# Altium integrated library Microchip Microcontroller 8-Bit PIC16.IntLib: 1529 symbols (part 36 of 55)
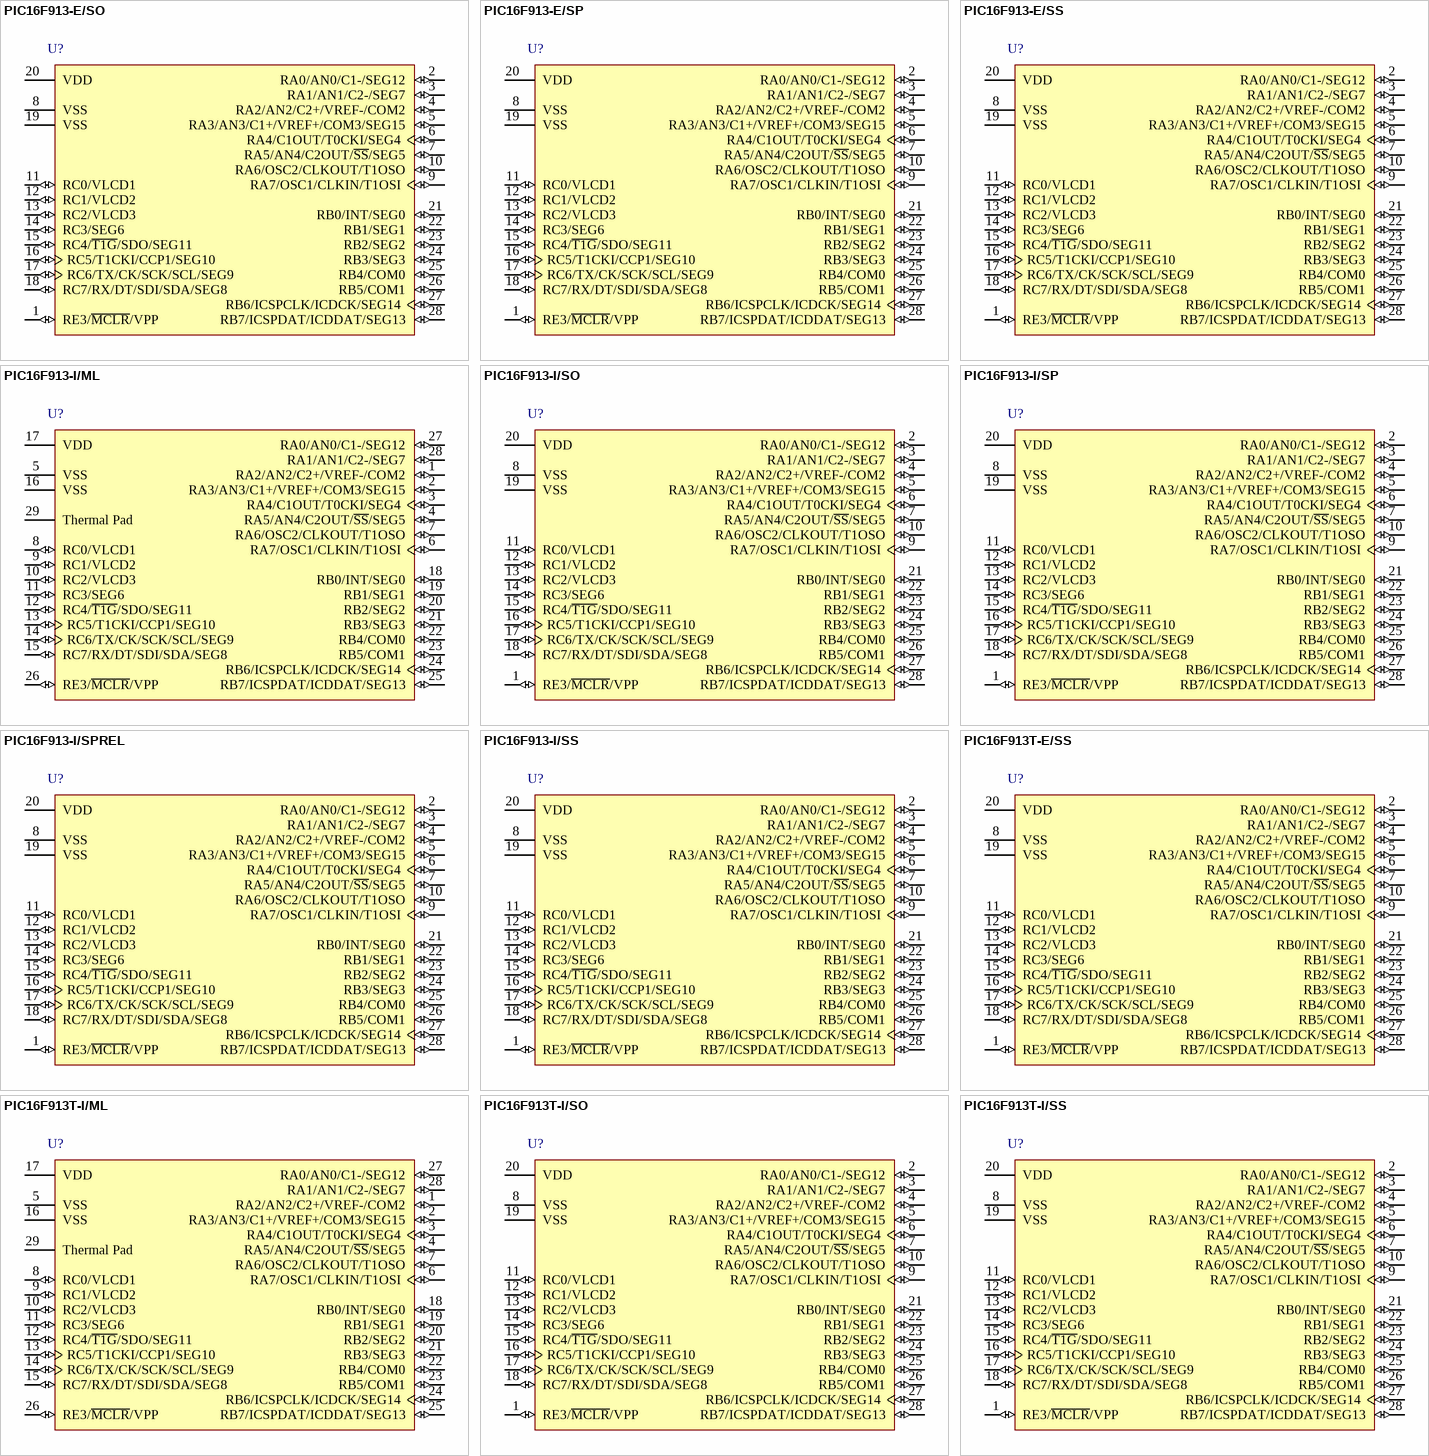
[diagram p153: symbols PIC16F913-E/SO to PIC16F913T-I/SS]

## PIC16F913T-E/SS
designator U?
Flash-Based, 8-Bit CMOS Microcontroller with LCD Driver and nanoWatt Technology, 4K (x14-Bit words) Program Memory, 512 Bytes Data Memory, 24 I/O pins, 28-Pin SSOP, Standard VDD Range, Extended Temperature, Tape and Reel; Published: 29-Jan-2009; DatasheetVersion: revF, May-2007; PackageVersion: revBB, Aug-2009; PackageReference: SSOP-SS28; Publisher: Altium Limited; PackageDescription: 28-Lead Plastic Shrink Small Outline (SS) - 5.3mm Body [SSOP]; Code_JEDEC: MS-150; Code_IPC: SOP65P780-28; ComponentLink1Description: Datasheet; ComponentLink1URL: http://ww1.microchip.com/downloads/en/DeviceDoc/41250F.pdf; ComponentLink2Description: Packaging Specification; ComponentLink2URL: http://www.microchip.com/stellent/groups/techpub_sg/documents/packagingspec/en012702.pdf; ComponentLink3Description: Microchip.com Home; ComponentLink3URL: http://www.microchip.com/
footprint SSOP-SS28_N (SOP, 28-Leads, Body 10.2x5.2mm, Pitch 0.65mm, IPC Medium Density)
footprint SSOP-SS28_L (SOP, 28-Leads, Body 10.2x5.2mm, Pitch 0.65mm, IPC High Density)
footprint SSOP-SS28_M (SOP, 28-Leads, Body 10.2x5.2mm, Pitch 0.65mm, IPC Low Density)
pins: 1 RE3/~{MCLR}/VPP (io), 2 RA0/AN0/C1-/SEG12 (io), 3 RA1/AN1/C2-/SEG7 (io), 4 RA2/AN2/C2+/VREF-/COM2 (io), 5 RA3/AN3/C1+/VREF+/COM3/SEG15 (io), 6 RA4/C1OUT/T0CKI/SEG4 (io), 7 RA5/AN4/C2OUT/~{SS}/SEG5 (io), 8 VSS (power), 9 RA7/OSC1/CLKIN/T1OSI (io), 10 RA6/OSC2/CLKOUT/T1OSO (io), 11 RC0/VLCD1 (io), 12 RC1/VLCD2 (io), 13 RC2/VLCD3 (io), 14 RC3/SEG6 (io), 15 RC4/~{T1G}/SDO/SEG11 (io), 16 RC5/T1CKI/CCP1/SEG10 (io), 17 RC6/TX/CK/SCK/SCL/SEG9 (io), 18 RC7/RX/DT/SDI/SDA/SEG8 (io), 19 VSS (power), 20 VDD (power), 21 RB0/INT/SEG0 (io), 22 RB1/SEG1 (io), 23 RB2/SEG2 (io), 24 RB3/SEG3 (io), 25 RB4/COM0 (io), 26 RB5/COM1 (io), 27 RB6/ICSPCLK/ICDCK/SEG14 (io), 28 RB7/ICSPDAT/ICDDAT/SEG13 (io)

## PIC16F913T-I/ML
designator U?
Flash-Based, 8-Bit CMOS Microcontroller with LCD Driver and nanoWatt Technology, 4K (x14-Bit words) Program Memory, 512 Bytes Data Memory, 24 I/O pins, 28-Pin QFN, Standard VDD Range, Industrial Temperature, Tape and Reel; Published: 29-Jan-2009; DatasheetVersion: revF, May-2007; PackageVersion: revBB, Aug-2009; PackageReference: QFN-ML28; Publisher: Altium Limited; PackageDescription: 28-Lead Plastic Quad Flat, No Lead Package (ML) - 6x6 mm Body [QFN] with 0.55 mm Contact Length; Supplier 1: Digi-Key; Supplier Part Number 1: PIC16F913T-I/ML-ND; Code_JEDEC: MO-220; Code_IPC: QFN65P600X600-28V; ComponentLink1Description: Datasheet; ComponentLink1URL: http://ww1.microchip.com/downloads/en/DeviceDoc/41250F.pdf; ComponentLink2Description: Packaging Specification; ComponentLink2URL: http://www.microchip.com/stellent/groups/techpub_sg/documents/packagingspec/en012702.pdf; ComponentLink3Description: Microchip.com Home; ComponentLink3URL: http://www.microchip.com/
footprint QFN-ML28_N (QFN, 28-Leads, Body 6x6 mm, Pitch 0.65mm, IPC Medium Density)
footprint QFN-ML28_L (QFN, 28-Leads, Body 6x6 mm, Pitch 0.65mm, IPC High Density)
footprint QFN-ML28_M (QFN, 28-Leads, Body 6x6 mm, Pitch 0.65mm, IPC Low Density)
pins: 1 RA2/AN2/C2+/VREF-/COM2 (io), 2 RA3/AN3/C1+/VREF+/COM3/SEG15 (io), 3 RA4/C1OUT/T0CKI/SEG4 (io), 4 RA5/AN4/C2OUT/~{SS}/SEG5 (io), 5 VSS (power), 6 RA7/OSC1/CLKIN/T1OSI (io), 7 RA6/OSC2/CLKOUT/T1OSO (io), 8 RC0/VLCD1 (io), 9 RC1/VLCD2 (io), 10 RC2/VLCD3 (io), 11 RC3/SEG6 (io), 12 RC4/~{T1G}/SDO/SEG11 (io), 13 RC5/T1CKI/CCP1/SEG10 (io), 14 RC6/TX/CK/SCK/SCL/SEG9 (io), 15 RC7/RX/DT/SDI/SDA/SEG8 (io), 16 VSS (power), 17 VDD (power), 18 RB0/INT/SEG0 (io), 19 RB1/SEG1 (io), 20 RB2/SEG2 (io), 21 RB3/SEG3 (io), 22 RB4/COM0 (io), 23 RB5/COM1 (io), 24 RB6/ICSPCLK/ICDCK/SEG14 (io), 25 RB7/ICSPDAT/ICDDAT/SEG13 (io), 26 RE3/~{MCLR}/VPP (io), 27 RA0/AN0/C1-/SEG12 (io), 28 RA1/AN1/C2-/SEG7 (io), 29 Thermal Pad

## PIC16F913T-I/SO
designator U?
Flash-Based, 8-Bit CMOS Microcontroller with LCD Driver and nanoWatt Technology, 4K (x14-Bit words) Program Memory, 512 Bytes Data Memory, 24 I/O pins, 28-Pin SOIC, Standard VDD Range, Industrial Temperature, Tape and Reel; Published: 29-Jan-2009; DatasheetVersion: revF, May-2007; PackageVersion: revBB, Aug-2009; PackageReference: SOIC-SO28; Publisher: Altium Limited; PackageDescription: 28-Lead Plastic Small Outline (SO) - Wide 7.50mm Body [SOIC]; Supplier 1: Digi-Key; Supplier Part Number 1: PIC16F913T-I/SO-ND; Code_JEDEC: MS-013; ComponentLink1Description: Datasheet; ComponentLink1URL: http://ww1.microchip.com/downloads/en/DeviceDoc/41250F.pdf; ComponentLink2Description: Packaging Specification; ComponentLink2URL: http://www.microchip.com/stellent/groups/techpub_sg/documents/packagingspec/en012702.pdf; ComponentLink3Description: Microchip.com Home; ComponentLink3URL: http://www.microchip.com/
footprint SOIC-SO28_N (SOIC, 28-Leads, Body 17.9x7.5mm, Pitch 1.27mm, IPC Medium Density)
footprint SOIC-SO28_L (SOIC, 28-Leads, Body 17.9x7.5mm, Pitch 1.27mm, IPC High Density)
footprint SOIC-SO28_M (SOIC, 28-Leads, Body 17.9x7.5mm, Pitch 1.27mm, IPC Low Density)
pins: 1 RE3/~{MCLR}/VPP (io), 2 RA0/AN0/C1-/SEG12 (io), 3 RA1/AN1/C2-/SEG7 (io), 4 RA2/AN2/C2+/VREF-/COM2 (io), 5 RA3/AN3/C1+/VREF+/COM3/SEG15 (io), 6 RA4/C1OUT/T0CKI/SEG4 (io), 7 RA5/AN4/C2OUT/~{SS}/SEG5 (io), 8 VSS (power), 9 RA7/OSC1/CLKIN/T1OSI (io), 10 RA6/OSC2/CLKOUT/T1OSO (io), 11 RC0/VLCD1 (io), 12 RC1/VLCD2 (io), 13 RC2/VLCD3 (io), 14 RC3/SEG6 (io), 15 RC4/~{T1G}/SDO/SEG11 (io), 16 RC5/T1CKI/CCP1/SEG10 (io), 17 RC6/TX/CK/SCK/SCL/SEG9 (io), 18 RC7/RX/DT/SDI/SDA/SEG8 (io), 19 VSS (power), 20 VDD (power), 21 RB0/INT/SEG0 (io), 22 RB1/SEG1 (io), 23 RB2/SEG2 (io), 24 RB3/SEG3 (io), 25 RB4/COM0 (io), 26 RB5/COM1 (io), 27 RB6/ICSPCLK/ICDCK/SEG14 (io), 28 RB7/ICSPDAT/ICDDAT/SEG13 (io)

## PIC16F913T-I/SS
designator U?
Flash-Based, 8-Bit CMOS Microcontroller with LCD Driver and nanoWatt Technology, 4K (x14-Bit words) Program Memory, 512 Bytes Data Memory, 24 I/O pins, 28-Pin SSOP, Standard VDD Range, Industrial Temperature, Tape and Reel; Published: 29-Jan-2009; DatasheetVersion: revF, May-2007; PackageVersion: revBB, Aug-2009; PackageReference: SSOP-SS28; Publisher: Altium Limited; PackageDescription: 28-Lead Plastic Shrink Small Outline (SS) - 5.3mm Body [SSOP]; Supplier 1: Digi-Key; Supplier Part Number 1: PIC16F913T-I/SS-ND; Code_JEDEC: MS-150; Code_IPC: SOP65P780-28; ComponentLink1Description: Datasheet; ComponentLink1URL: http://ww1.microchip.com/downloads/en/DeviceDoc/41250F.pdf; ComponentLink2Description: Packaging Specification; ComponentLink2URL: http://www.microchip.com/stellent/groups/techpub_sg/documents/packagingspec/en012702.pdf; ComponentLink3Description: Microchip.com Home; ComponentLink3URL: http://www.microchip.com/
footprint SSOP-SS28_N (SOP, 28-Leads, Body 10.2x5.2mm, Pitch 0.65mm, IPC Medium Density)
footprint SSOP-SS28_L (SOP, 28-Leads, Body 10.2x5.2mm, Pitch 0.65mm, IPC High Density)
footprint SSOP-SS28_M (SOP, 28-Leads, Body 10.2x5.2mm, Pitch 0.65mm, IPC Low Density)
pins: 1 RE3/~{MCLR}/VPP (io), 2 RA0/AN0/C1-/SEG12 (io), 3 RA1/AN1/C2-/SEG7 (io), 4 RA2/AN2/C2+/VREF-/COM2 (io), 5 RA3/AN3/C1+/VREF+/COM3/SEG15 (io), 6 RA4/C1OUT/T0CKI/SEG4 (io), 7 RA5/AN4/C2OUT/~{SS}/SEG5 (io), 8 VSS (power), 9 RA7/OSC1/CLKIN/T1OSI (io), 10 RA6/OSC2/CLKOUT/T1OSO (io), 11 RC0/VLCD1 (io), 12 RC1/VLCD2 (io), 13 RC2/VLCD3 (io), 14 RC3/SEG6 (io), 15 RC4/~{T1G}/SDO/SEG11 (io), 16 RC5/T1CKI/CCP1/SEG10 (io), 17 RC6/TX/CK/SCK/SCL/SEG9 (io), 18 RC7/RX/DT/SDI/SDA/SEG8 (io), 19 VSS (power), 20 VDD (power), 21 RB0/INT/SEG0 (io), 22 RB1/SEG1 (io), 23 RB2/SEG2 (io), 24 RB3/SEG3 (io), 25 RB4/COM0 (io), 26 RB5/COM1 (io), 27 RB6/ICSPCLK/ICDCK/SEG14 (io), 28 RB7/ICSPDAT/ICDDAT/SEG13 (io)

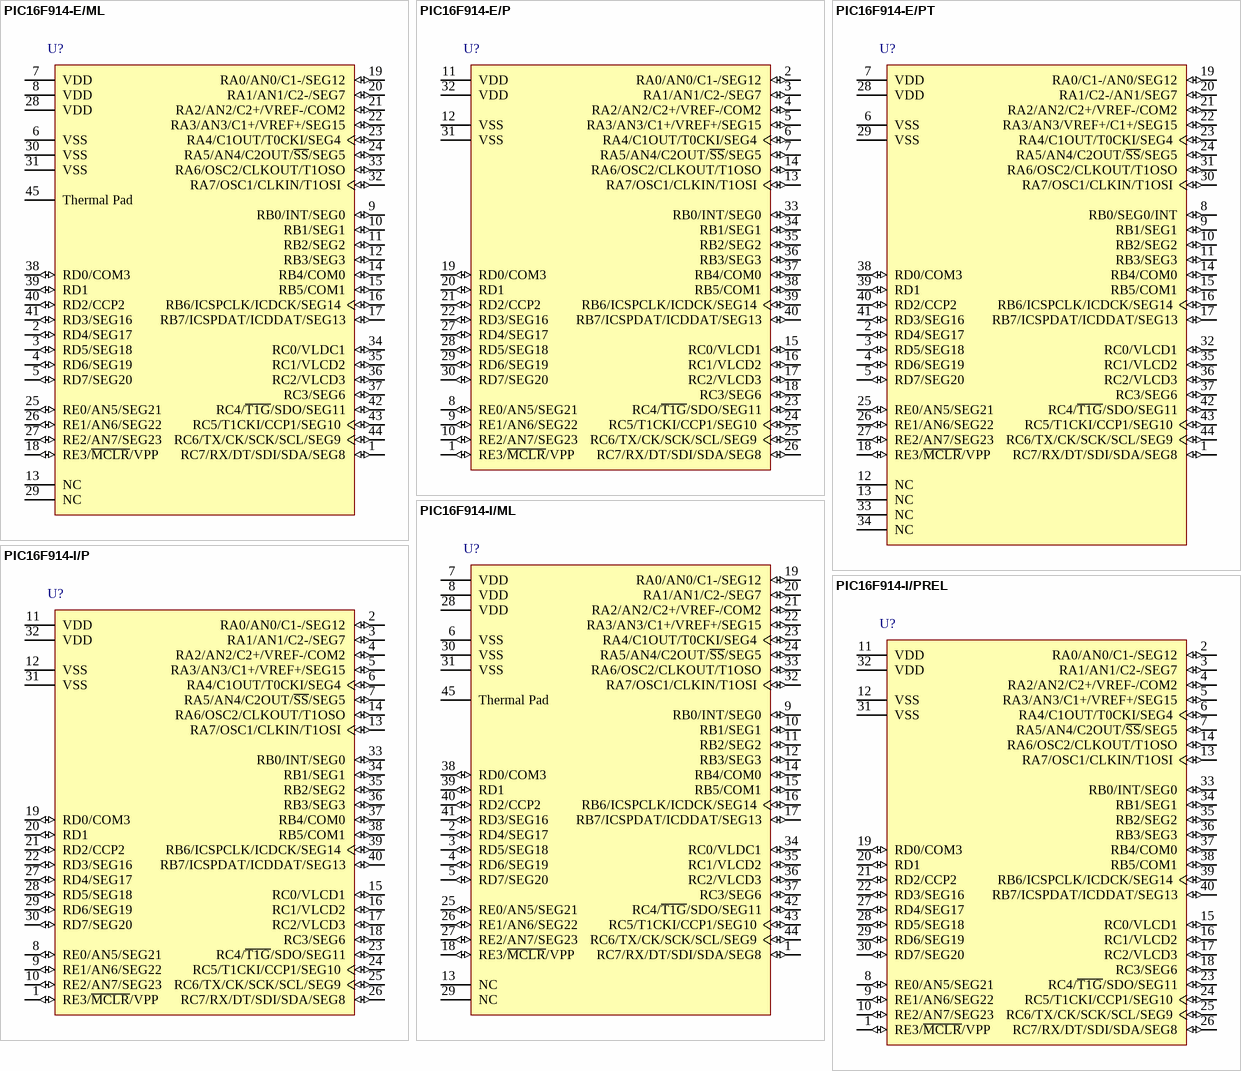
[diagram p72: symbols PIC16F914-E/ML to PIC16F914-I/PREL]

## PIC16F914-E/ML
designator U?
Flash-Based, 8-Bit CMOS Microcontroller with LCD Driver and nanoWatt Technology, 4K (x14-Bit words) Program Memory, 512 Bytes Data Memory, 35 I/O pins, 44-Pin QFN, Standard VDD Range, Extended Temperature; Published: 29-Jan-2009; DatasheetVersion: revF, May-2007; PackageVersion: revBB, Aug-2009; PackageReference: QFN-ML44; Publisher: Altium Limited; PackageDescription: 44-Lead Plastic Quad Flat, No Lead Package (ML) - 8x8 mm Body [QFN]; Supplier 1: Digi-Key; Supplier Part Number 1: PIC16F914-E/ML-ND; Code_JEDEC: MO-220; Code_IPC: QFN65P800X800-44V2; ComponentLink1Description: Datasheet; ComponentLink1URL: http://ww1.microchip.com/downloads/en/DeviceDoc/41250F.pdf; ComponentLink2Description: Packaging Specification; ComponentLink2URL: http://www.microchip.com/stellent/groups/techpub_sg/documents/packagingspec/en012702.pdf; ComponentLink3Description: Microchip.com Home; ComponentLink3URL: http://www.microchip.com/
footprint QFN-ML44_N (QFN, 44-Leads, Body 8x8 mm, Pitch 0.65mm, IPC Medium Density)
footprint QFN-ML44_L (QFN, 44-Leads, Body 8x8 mm, Pitch 0.65mm, IPC High Density)
footprint QFN-ML44_M (QFN, 44-Leads, Body 8x8 mm, Pitch 0.65mm, IPC Low Density)
pins: 1 RC7/RX/DT/SDI/SDA/SEG8 (io), 2 RD4/SEG17 (io), 3 RD5/SEG18 (io), 4 RD6/SEG19 (io), 5 RD7/SEG20 (io), 6 VSS (power), 7 VDD (power), 8 VDD (power), 9 RB0/INT/SEG0 (io), 10 RB1/SEG1 (io), 11 RB2/SEG2 (io), 12 RB3/SEG3 (io), 13 NC, 14 RB4/COM0 (io), 15 RB5/COM1 (io), 16 RB6/ICSPCLK/ICDCK/SEG14 (io), 17 RB7/ICSPDAT/ICDDAT/SEG13 (io), 18 RE3/~{MCLR}/VPP (io), 19 RA0/AN0/C1-/SEG12 (io), 20 RA1/AN1/C2-/SEG7 (io), 21 RA2/AN2/C2+/VREF-/COM2 (io), 22 RA3/AN3/C1+/VREF+/SEG15 (io), 23 RA4/C1OUT/T0CKI/SEG4 (io), 24 RA5/AN4/C2OUT/~{SS}/SEG5 (io), 25 RE0/AN5/SEG21 (io), 26 RE1/AN6/SEG22 (io), 27 RE2/AN7/SEG23 (io), 28 VDD (power), 29 NC, 30 VSS (power), 31 VSS (power), 32 RA7/OSC1/CLKIN/T1OSI (io), 33 RA6/OSC2/CLKOUT/T1OSO (io), 34 RC0/VLDC1 (io), 35 RC1/VLCD2 (io), 36 RC2/VLCD3 (io), 37 RC3/SEG6 (io), 38 RD0/COM3 (io), 39 RD1 (io), 40 RD2/CCP2 (io), 41 RD3/SEG16 (io), 42 RC4/~{T1G}/SDO/SEG11 (io), 43 RC5/T1CKI/CCP1/SEG10 (io), 44 RC6/TX/CK/SCK/SCL/SEG9 (io), 45 Thermal Pad

## PIC16F914-E/P
designator U?
Flash-Based, 8-Bit CMOS Microcontroller with LCD Driver and nanoWatt Technology, 4K (x14-Bit words) Program Memory, 512 Bytes Data Memory, 35 I/O pins, 40-Pin PDIP, Standard VDD Range, Extended Temperature; Published: 29-Jan-2009; DatasheetVersion: revF, May-2007; PackageVersion: revBB, Aug-2009; PackageReference: PDIP600-P40; Publisher: Altium Limited; PackageDescription: 40-Lead Plastic Dual In-Line (P) - 600 mil Body [PDIP]; Supplier 1: Digi-Key; Supplier Part Number 1: PIC16F914-E/P-ND; ComponentLink1Description: Datasheet; ComponentLink1URL: http://ww1.microchip.com/downloads/en/DeviceDoc/41250F.pdf; ComponentLink2Description: Packaging Specification; ComponentLink2URL: http://www.microchip.com/stellent/groups/techpub_sg/documents/packagingspec/en012702.pdf; ComponentLink3Description: Microchip.com Home; ComponentLink3URL: http://www.microchip.com/
footprint PDIP600-P40 (DIP, 40-Leads, Row Spacing 15.24mm, Pitch 2.54mm, Body 51.8x13.5mm)
pins: 1 RE3/~{MCLR}/VPP (io), 2 RA0/AN0/C1-/SEG12 (io), 3 RA1/AN1/C2-/SEG7 (io), 4 RA2/AN2/C2+/VREF-/COM2 (io), 5 RA3/AN3/C1+/VREF+/SEG15 (io), 6 RA4/C1OUT/T0CKI/SEG4 (io), 7 RA5/AN4/C2OUT/~{SS}/SEG5 (io), 8 RE0/AN5/SEG21 (io), 9 RE1/AN6/SEG22 (io), 10 RE2/AN7/SEG23 (io), 11 VDD (power), 12 VSS (power), 13 RA7/OSC1/CLKIN/T1OSI (io), 14 RA6/OSC2/CLKOUT/T1OSO (io), 15 RC0/VLCD1 (io), 16 RC1/VLCD2 (io), 17 RC2/VLCD3 (io), 18 RC3/SEG6 (io), 19 RD0/COM3 (io), 20 RD1 (io), 21 RD2/CCP2 (io), 22 RD3/SEG16 (io), 23 RC4/~{T1G}/SDO/SEG11 (io), 24 RC5/T1CKI/CCP1/SEG10 (io), 25 RC6/TX/CK/SCK/SCL/SEG9 (io), 26 RC7/RX/DT/SDI/SDA/SEG8 (io), 27 RD4/SEG17 (io), 28 RD5/SEG18 (io), 29 RD6/SEG19 (io), 30 RD7/SEG20 (io), 31 VSS (power), 32 VDD (power), 33 RB0/INT/SEG0 (io), 34 RB1/SEG1 (io), 35 RB2/SEG2 (io), 36 RB3/SEG3 (io), 37 RB4/COM0 (io), 38 RB5/COM1 (io), 39 RB6/ICSPCLK/ICDCK/SEG14 (io), 40 RB7/ICSPDAT/ICDDAT/SEG13 (io)

## PIC16F914-E/PT
designator U?
Flash-Based, 8-Bit CMOS Microcontroller with LCD Driver and nanoWatt Technology, 4K (x14-Bit words) Program Memory, 512 Bytes Data Memory, 35 I/O pins, 44-Pin TQFP, Standard VDD Range, Extended Temperature; Published: 29-Jan-2009; DatasheetVersion: revF, May-2007; PackageVersion: revBB, Aug-2009; PackageReference: TQFP-PT44; Publisher: Altium Limited; PackageDescription: 44-Lead Plastic Thin Quad Flatpack (PT) - 10x10x1mm Body, 2.00mm [TQFP]; Supplier 1: Digi-Key; Supplier Part Number 1: PIC16F914-E/PT-ND; Code_JEDEC: MS-026; ComponentLink1Description: Datasheet; ComponentLink1URL: http://ww1.microchip.com/downloads/en/DeviceDoc/41250F.pdf; ComponentLink2Description: Packaging Specification; ComponentLink2URL: http://www.microchip.com/stellent/groups/techpub_sg/documents/packagingspec/en012702.pdf; ComponentLink3Description: Microchip.com Home; ComponentLink3URL: http://www.microchip.com/
footprint TQFP-PT44_N (Thin QFP, 44-Leads, Body 10x10mm, Pitch 0.8mm, IPC Medium Density)
footprint TQFP-PT44_L (Thin QFP, 44-Leads, Body 10x10mm, Pitch 0.8mm, IPC High Density)
footprint TQFP-PT44_M (Thin QFP, 44-Leads, Body 10x10mm, Pitch 0.8mm, IPC Low Density)
pins: 1 RC7/RX/DT/SDI/SDA/SEG8 (io), 2 RD4/SEG17 (io), 3 RD5/SEG18 (io), 4 RD6/SEG19 (io), 5 RD7/SEG20 (io), 6 VSS (power), 7 VDD (power), 8 RB0/SEG0/INT (io), 9 RB1/SEG1 (io), 10 RB2/SEG2 (io), 11 RB3/SEG3 (io), 12 NC, 13 NC, 14 RB4/COM0 (io), 15 RB5/COM1 (io), 16 RB6/ICSPCLK/ICDCK/SEG14 (io), 17 RB7/ICSPDAT/ICDDAT/SEG13 (io), 18 RE3/~{MCLR}/VPP (io), 19 RA0/C1-/AN0/SEG12 (io), 20 RA1/C2-/AN1/SEG7 (io), 21 RA2/AN2/C2+/VREF-/COM2 (io), 22 RA3/AN3/VREF+/C1+/SEG15 (io), 23 RA4/C1OUT/T0CKI/SEG4 (io), 24 RA5/AN4/C2OUT/~{SS}/SEG5 (io), 25 RE0/AN5/SEG21 (io), 26 RE1/AN6/SEG22 (io), 27 RE2/AN7/SEG23 (io), 28 VDD (power), 29 VSS (power), 30 RA7/OSC1/CLKIN/T1OSI (io), 31 RA6/OSC2/CLKOUT/T1OSO (io), 32 RC0/VLCD1 (io), 33 NC, 34 NC, 35 RC1/VLCD2 (io), 36 RC2/VLCD3 (io), 37 RC3/SEG6 (io), 38 RD0/COM3 (io), 39 RD1 (io), 40 RD2/CCP2 (io), 41 RD3/SEG16 (io), 42 RC4/~{T1G}/SDO/SEG11 (io), 43 RC5/T1CKI/CCP1/SEG10 (io), 44 RC6/TX/CK/SCK/SCL/SEG9 (io)

## PIC16F914-I/ML
designator U?
Flash-Based, 8-Bit CMOS Microcontroller with LCD Driver and nanoWatt Technology, 4K (x14-Bit words) Program Memory, 512 Bytes Data Memory, 35 I/O pins, 44-Pin QFN, Standard VDD Range, Industrial Temperature; Published: 29-Jan-2009; DatasheetVersion: revF, May-2007; PackageVersion: revBB, Aug-2009; PackageReference: QFN-ML44; Publisher: Altium Limited; PackageDescription: 44-Lead Plastic Quad Flat, No Lead Package (ML) - 8x8 mm Body [QFN]; Supplier 1: Digi-Key; Supplier Part Number 1: PIC16F914-I/ML-ND; Code_JEDEC: MO-220; Code_IPC: QFN65P800X800-44V2; ComponentLink1Description: Datasheet; ComponentLink1URL: http://ww1.microchip.com/downloads/en/DeviceDoc/41250F.pdf; ComponentLink2Description: Packaging Specification; ComponentLink2URL: http://www.microchip.com/stellent/groups/techpub_sg/documents/packagingspec/en012702.pdf; ComponentLink3Description: Microchip.com Home; ComponentLink3URL: http://www.microchip.com/
footprint QFN-ML44_N (QFN, 44-Leads, Body 8x8 mm, Pitch 0.65mm, IPC Medium Density)
footprint QFN-ML44_L (QFN, 44-Leads, Body 8x8 mm, Pitch 0.65mm, IPC High Density)
footprint QFN-ML44_M (QFN, 44-Leads, Body 8x8 mm, Pitch 0.65mm, IPC Low Density)
pins: 1 RC7/RX/DT/SDI/SDA/SEG8 (io), 2 RD4/SEG17 (io), 3 RD5/SEG18 (io), 4 RD6/SEG19 (io), 5 RD7/SEG20 (io), 6 VSS (power), 7 VDD (power), 8 VDD (power), 9 RB0/INT/SEG0 (io), 10 RB1/SEG1 (io), 11 RB2/SEG2 (io), 12 RB3/SEG3 (io), 13 NC, 14 RB4/COM0 (io), 15 RB5/COM1 (io), 16 RB6/ICSPCLK/ICDCK/SEG14 (io), 17 RB7/ICSPDAT/ICDDAT/SEG13 (io), 18 RE3/~{MCLR}/VPP (io), 19 RA0/AN0/C1-/SEG12 (io), 20 RA1/AN1/C2-/SEG7 (io), 21 RA2/AN2/C2+/VREF-/COM2 (io), 22 RA3/AN3/C1+/VREF+/SEG15 (io), 23 RA4/C1OUT/T0CKI/SEG4 (io), 24 RA5/AN4/C2OUT/~{SS}/SEG5 (io), 25 RE0/AN5/SEG21 (io), 26 RE1/AN6/SEG22 (io), 27 RE2/AN7/SEG23 (io), 28 VDD (power), 29 NC, 30 VSS (power), 31 VSS (power), 32 RA7/OSC1/CLKIN/T1OSI (io), 33 RA6/OSC2/CLKOUT/T1OSO (io), 34 RC0/VLDC1 (io), 35 RC1/VLCD2 (io), 36 RC2/VLCD3 (io), 37 RC3/SEG6 (io), 38 RD0/COM3 (io), 39 RD1 (io), 40 RD2/CCP2 (io), 41 RD3/SEG16 (io), 42 RC4/~{T1G}/SDO/SEG11 (io), 43 RC5/T1CKI/CCP1/SEG10 (io), 44 RC6/TX/CK/SCK/SCL/SEG9 (io), 45 Thermal Pad

## PIC16F914-I/P
designator U?
Flash-Based, 8-Bit CMOS Microcontroller with LCD Driver and nanoWatt Technology, 4K (x14-Bit words) Program Memory, 512 Bytes Data Memory, 35 I/O pins, 40-Pin PDIP, Standard VDD Range, Industrial Temperature; Published: 29-Jan-2009; DatasheetVersion: revF, May-2007; PackageVersion: revBB, Aug-2009; PackageReference: PDIP600-P40; Publisher: Altium Limited; PackageDescription: 40-Lead Plastic Dual In-Line (P) - 600 mil Body [PDIP]; Supplier 1: Digi-Key; Supplier Part Number 1: PIC16F914-I/P-ND; Supplier 2: Farnell; Supplier Part Number 2: 1292266; ComponentLink1Description: Datasheet; ComponentLink1URL: http://ww1.microchip.com/downloads/en/DeviceDoc/41250F.pdf; ComponentLink2Description: Packaging Specification; ComponentLink2URL: http://www.microchip.com/stellent/groups/techpub_sg/documents/packagingspec/en012702.pdf; ComponentLink3Description: Microchip.com Home; ComponentLink3URL: http://www.microchip.com/
footprint PDIP600-P40 (DIP, 40-Leads, Row Spacing 15.24mm, Pitch 2.54mm, Body 51.8x13.5mm)
pins: 1 RE3/~{MCLR}/VPP (io), 2 RA0/AN0/C1-/SEG12 (io), 3 RA1/AN1/C2-/SEG7 (io), 4 RA2/AN2/C2+/VREF-/COM2 (io), 5 RA3/AN3/C1+/VREF+/SEG15 (io), 6 RA4/C1OUT/T0CKI/SEG4 (io), 7 RA5/AN4/C2OUT/~{SS}/SEG5 (io), 8 RE0/AN5/SEG21 (io), 9 RE1/AN6/SEG22 (io), 10 RE2/AN7/SEG23 (io), 11 VDD (power), 12 VSS (power), 13 RA7/OSC1/CLKIN/T1OSI (io), 14 RA6/OSC2/CLKOUT/T1OSO (io), 15 RC0/VLCD1 (io), 16 RC1/VLCD2 (io), 17 RC2/VLCD3 (io), 18 RC3/SEG6 (io), 19 RD0/COM3 (io), 20 RD1 (io), 21 RD2/CCP2 (io), 22 RD3/SEG16 (io), 23 RC4/~{T1G}/SDO/SEG11 (io), 24 RC5/T1CKI/CCP1/SEG10 (io), 25 RC6/TX/CK/SCK/SCL/SEG9 (io), 26 RC7/RX/DT/SDI/SDA/SEG8 (io), 27 RD4/SEG17 (io), 28 RD5/SEG18 (io), 29 RD6/SEG19 (io), 30 RD7/SEG20 (io), 31 VSS (power), 32 VDD (power), 33 RB0/INT/SEG0 (io), 34 RB1/SEG1 (io), 35 RB2/SEG2 (io), 36 RB3/SEG3 (io), 37 RB4/COM0 (io), 38 RB5/COM1 (io), 39 RB6/ICSPCLK/ICDCK/SEG14 (io), 40 RB7/ICSPDAT/ICDDAT/SEG13 (io)

## PIC16F914-I/PREL
designator U?
Flash-Based, 8-Bit CMOS Microcontroller with LCD Driver and nanoWatt Technology, 4K (x14-Bit words) Program Memory, 512 Bytes Data Memory, 35 I/O pins, 40-Pin PDIP, Standard VDD Range, Industrial Temperature; ComponentAvailability: Unknown. Contact manufacturer to determine status.; Published: 29-Jan-2009; DatasheetVersion: revF, May-2007; PackageVersion: revBB, Aug-2009; PackageReference: PDIP600-P40; Publisher: Altium Limited; PackageDescription: 40-Lead Plastic Dual In-Line (P) - 600 mil Body [PDIP]; ComponentLink1Description: Datasheet; ComponentLink1URL: http://ww1.microchip.com/downloads/en/DeviceDoc/41250F.pdf; ComponentLink2Description: Packaging Specification; ComponentLink2URL: http://www.microchip.com/stellent/groups/techpub_sg/documents/packagingspec/en012702.pdf; ComponentLink3Description: Microchip.com Home; ComponentLink3URL: http://www.microchip.com/
footprint PDIP600-P40 (DIP, 40-Leads, Row Spacing 15.24mm, Pitch 2.54mm, Body 51.8x13.5mm)
pins: 1 RE3/~{MCLR}/VPP (io), 2 RA0/AN0/C1-/SEG12 (io), 3 RA1/AN1/C2-/SEG7 (io), 4 RA2/AN2/C2+/VREF-/COM2 (io), 5 RA3/AN3/C1+/VREF+/SEG15 (io), 6 RA4/C1OUT/T0CKI/SEG4 (io), 7 RA5/AN4/C2OUT/~{SS}/SEG5 (io), 8 RE0/AN5/SEG21 (io), 9 RE1/AN6/SEG22 (io), 10 RE2/AN7/SEG23 (io), 11 VDD (power), 12 VSS (power), 13 RA7/OSC1/CLKIN/T1OSI (io), 14 RA6/OSC2/CLKOUT/T1OSO (io), 15 RC0/VLCD1 (io), 16 RC1/VLCD2 (io), 17 RC2/VLCD3 (io), 18 RC3/SEG6 (io), 19 RD0/COM3 (io), 20 RD1 (io), 21 RD2/CCP2 (io), 22 RD3/SEG16 (io), 23 RC4/~{T1G}/SDO/SEG11 (io), 24 RC5/T1CKI/CCP1/SEG10 (io), 25 RC6/TX/CK/SCK/SCL/SEG9 (io), 26 RC7/RX/DT/SDI/SDA/SEG8 (io), 27 RD4/SEG17 (io), 28 RD5/SEG18 (io), 29 RD6/SEG19 (io), 30 RD7/SEG20 (io), 31 VSS (power), 32 VDD (power), 33 RB0/INT/SEG0 (io), 34 RB1/SEG1 (io), 35 RB2/SEG2 (io), 36 RB3/SEG3 (io), 37 RB4/COM0 (io), 38 RB5/COM1 (io), 39 RB6/ICSPCLK/ICDCK/SEG14 (io), 40 RB7/ICSPDAT/ICDDAT/SEG13 (io)

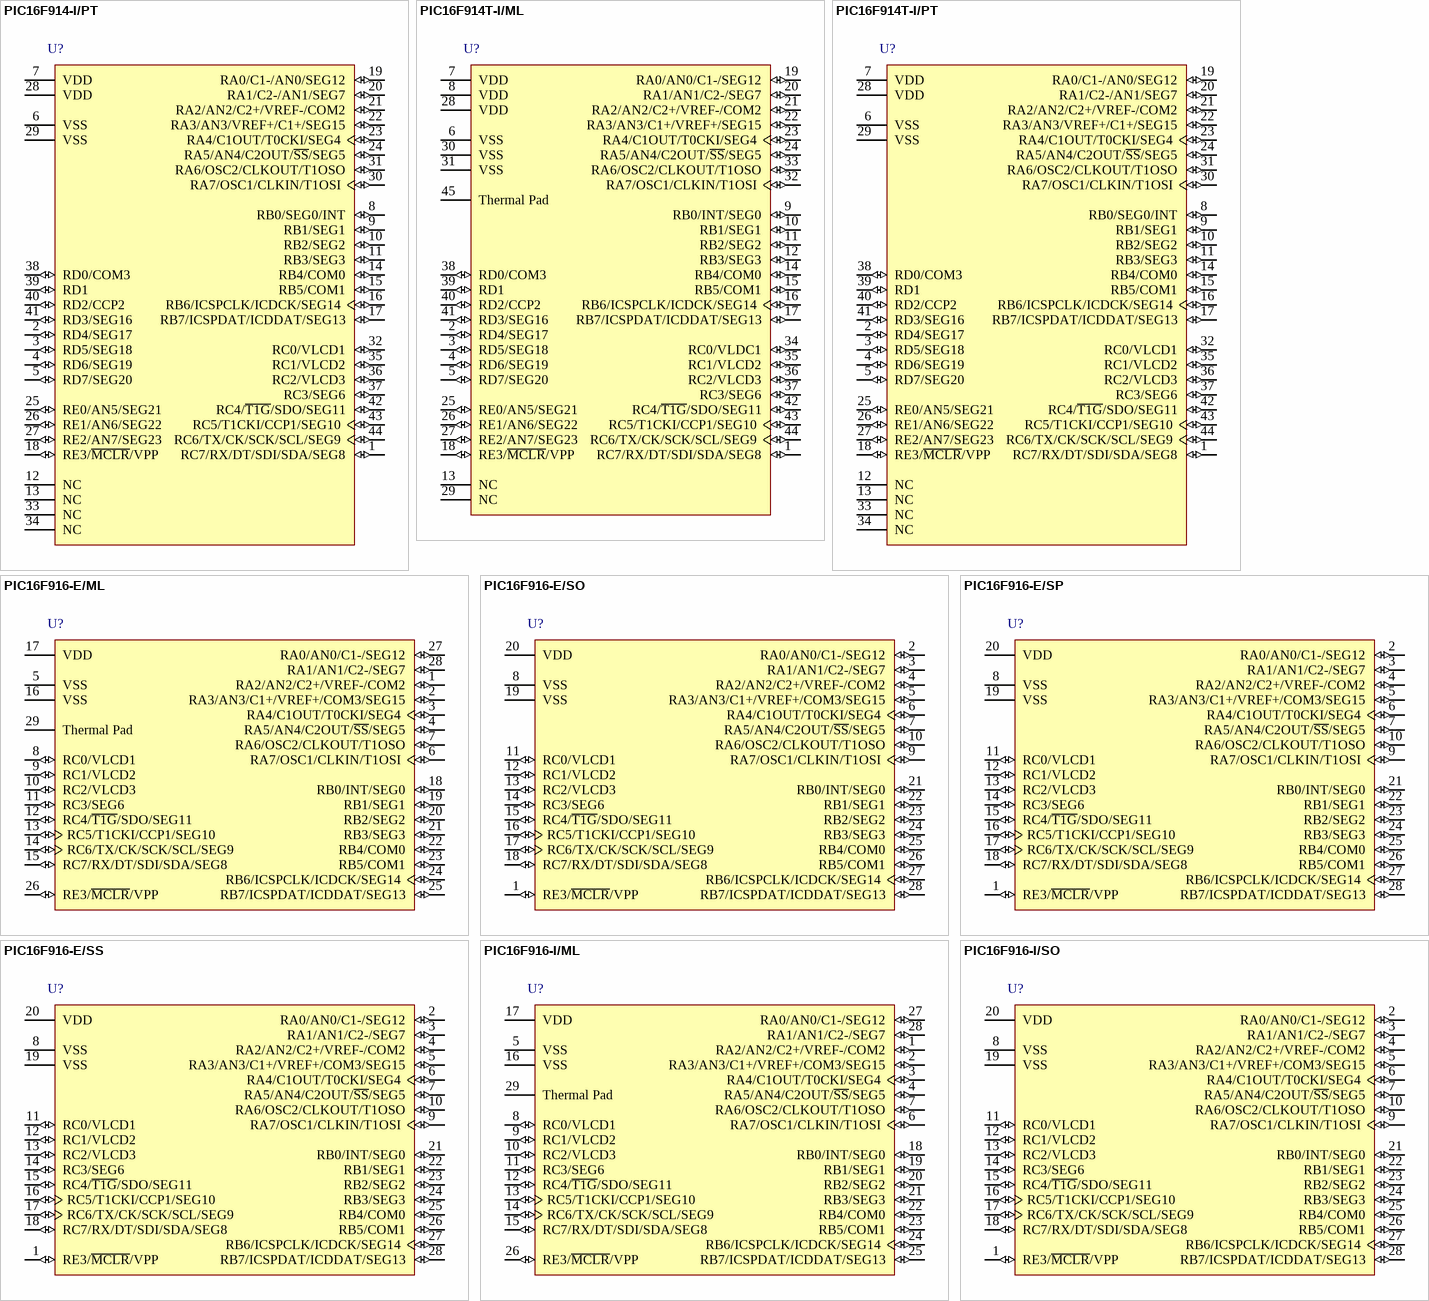
[diagram p73: symbols PIC16F914-I/PT to PIC16F916-I/SO]

## PIC16F914-I/PT
designator U?
Flash-Based, 8-Bit CMOS Microcontroller with LCD Driver and nanoWatt Technology, 4K (x14-Bit words) Program Memory, 512 Bytes Data Memory, 35 I/O pins, 44-Pin TQFP, Standard VDD Range, Industrial Temperature; Published: 29-Jan-2009; DatasheetVersion: revF, May-2007; PackageVersion: revBB, Aug-2009; PackageReference: TQFP-PT44; Publisher: Altium Limited; PackageDescription: 44-Lead Plastic Thin Quad Flatpack (PT) - 10x10x1mm Body, 2.00mm [TQFP]; Supplier 1: Digi-Key; Supplier Part Number 1: PIC16F914-I/PT-ND; Supplier 2: Farnell; Supplier Part Number 2: 1292267; Supplier 3: Farnell; Supplier Part Number 3: 1528389; Code_JEDEC: MS-026; ComponentLink1Description: Datasheet; ComponentLink1URL: http://ww1.microchip.com/downloads/en/DeviceDoc/41250F.pdf; ComponentLink2Description: Packaging Specification; ComponentLink2URL: http://www.microchip.com/stellent/groups/techpub_sg/documents/packagingspec/en012702.pdf; ComponentLink3Description: Microchip.com Home; ComponentLink3URL: http://www.microchip.com/
footprint TQFP-PT44_N (Thin QFP, 44-Leads, Body 10x10mm, Pitch 0.8mm, IPC Medium Density)
footprint TQFP-PT44_L (Thin QFP, 44-Leads, Body 10x10mm, Pitch 0.8mm, IPC High Density)
footprint TQFP-PT44_M (Thin QFP, 44-Leads, Body 10x10mm, Pitch 0.8mm, IPC Low Density)
pins: 1 RC7/RX/DT/SDI/SDA/SEG8 (io), 2 RD4/SEG17 (io), 3 RD5/SEG18 (io), 4 RD6/SEG19 (io), 5 RD7/SEG20 (io), 6 VSS (power), 7 VDD (power), 8 RB0/SEG0/INT (io), 9 RB1/SEG1 (io), 10 RB2/SEG2 (io), 11 RB3/SEG3 (io), 12 NC, 13 NC, 14 RB4/COM0 (io), 15 RB5/COM1 (io), 16 RB6/ICSPCLK/ICDCK/SEG14 (io), 17 RB7/ICSPDAT/ICDDAT/SEG13 (io), 18 RE3/~{MCLR}/VPP (io), 19 RA0/C1-/AN0/SEG12 (io), 20 RA1/C2-/AN1/SEG7 (io), 21 RA2/AN2/C2+/VREF-/COM2 (io), 22 RA3/AN3/VREF+/C1+/SEG15 (io), 23 RA4/C1OUT/T0CKI/SEG4 (io), 24 RA5/AN4/C2OUT/~{SS}/SEG5 (io), 25 RE0/AN5/SEG21 (io), 26 RE1/AN6/SEG22 (io), 27 RE2/AN7/SEG23 (io), 28 VDD (power), 29 VSS (power), 30 RA7/OSC1/CLKIN/T1OSI (io), 31 RA6/OSC2/CLKOUT/T1OSO (io), 32 RC0/VLCD1 (io), 33 NC, 34 NC, 35 RC1/VLCD2 (io), 36 RC2/VLCD3 (io), 37 RC3/SEG6 (io), 38 RD0/COM3 (io), 39 RD1 (io), 40 RD2/CCP2 (io), 41 RD3/SEG16 (io), 42 RC4/~{T1G}/SDO/SEG11 (io), 43 RC5/T1CKI/CCP1/SEG10 (io), 44 RC6/TX/CK/SCK/SCL/SEG9 (io)

## PIC16F914T-I/ML
designator U?
Flash-Based, 8-Bit CMOS Microcontroller with LCD Driver and nanoWatt Technology, 4K (x14-Bit words) Program Memory, 512 Bytes Data Memory, 35 I/O pins, 44-Pin QFN, Standard VDD Range, Industrial Temperature, Tape and Reel; Published: 29-Jan-2009; DatasheetVersion: revF, May-2007; PackageVersion: revBB, Aug-2009; PackageReference: QFN-ML44; Publisher: Altium Limited; PackageDescription: 44-Lead Plastic Quad Flat, No Lead Package (ML) - 8x8 mm Body [QFN]; Supplier 1: Digi-Key; Supplier Part Number 1: PIC16F914T-I/ML-ND; Code_JEDEC: MO-220; Code_IPC: QFN65P800X800-44V2; ComponentLink1Description: Datasheet; ComponentLink1URL: http://ww1.microchip.com/downloads/en/DeviceDoc/41250F.pdf; ComponentLink2Description: Packaging Specification; ComponentLink2URL: http://www.microchip.com/stellent/groups/techpub_sg/documents/packagingspec/en012702.pdf; ComponentLink3Description: Microchip.com Home; ComponentLink3URL: http://www.microchip.com/
footprint QFN-ML44_N (QFN, 44-Leads, Body 8x8 mm, Pitch 0.65mm, IPC Medium Density)
footprint QFN-ML44_L (QFN, 44-Leads, Body 8x8 mm, Pitch 0.65mm, IPC High Density)
footprint QFN-ML44_M (QFN, 44-Leads, Body 8x8 mm, Pitch 0.65mm, IPC Low Density)
pins: 1 RC7/RX/DT/SDI/SDA/SEG8 (io), 2 RD4/SEG17 (io), 3 RD5/SEG18 (io), 4 RD6/SEG19 (io), 5 RD7/SEG20 (io), 6 VSS (power), 7 VDD (power), 8 VDD (power), 9 RB0/INT/SEG0 (io), 10 RB1/SEG1 (io), 11 RB2/SEG2 (io), 12 RB3/SEG3 (io), 13 NC, 14 RB4/COM0 (io), 15 RB5/COM1 (io), 16 RB6/ICSPCLK/ICDCK/SEG14 (io), 17 RB7/ICSPDAT/ICDDAT/SEG13 (io), 18 RE3/~{MCLR}/VPP (io), 19 RA0/AN0/C1-/SEG12 (io), 20 RA1/AN1/C2-/SEG7 (io), 21 RA2/AN2/C2+/VREF-/COM2 (io), 22 RA3/AN3/C1+/VREF+/SEG15 (io), 23 RA4/C1OUT/T0CKI/SEG4 (io), 24 RA5/AN4/C2OUT/~{SS}/SEG5 (io), 25 RE0/AN5/SEG21 (io), 26 RE1/AN6/SEG22 (io), 27 RE2/AN7/SEG23 (io), 28 VDD (power), 29 NC, 30 VSS (power), 31 VSS (power), 32 RA7/OSC1/CLKIN/T1OSI (io), 33 RA6/OSC2/CLKOUT/T1OSO (io), 34 RC0/VLDC1 (io), 35 RC1/VLCD2 (io), 36 RC2/VLCD3 (io), 37 RC3/SEG6 (io), 38 RD0/COM3 (io), 39 RD1 (io), 40 RD2/CCP2 (io), 41 RD3/SEG16 (io), 42 RC4/~{T1G}/SDO/SEG11 (io), 43 RC5/T1CKI/CCP1/SEG10 (io), 44 RC6/TX/CK/SCK/SCL/SEG9 (io), 45 Thermal Pad

## PIC16F914T-I/PT
designator U?
Flash-Based, 8-Bit CMOS Microcontroller with LCD Driver and nanoWatt Technology, 4K (x14-Bit words) Program Memory, 512 Bytes Data Memory, 35 I/O pins, 44-Pin TQFP, Standard VDD Range, Industrial Temperature, Tape and Reel; Published: 29-Jan-2009; DatasheetVersion: revF, May-2007; PackageVersion: revBB, Aug-2009; PackageReference: TQFP-PT44; Publisher: Altium Limited; PackageDescription: 44-Lead Plastic Thin Quad Flatpack (PT) - 10x10x1mm Body, 2.00mm [TQFP]; Supplier 1: Digi-Key; Supplier Part Number 1: PIC16F914T-I/PT-ND; Code_JEDEC: MS-026; ComponentLink1Description: Datasheet; ComponentLink1URL: http://ww1.microchip.com/downloads/en/DeviceDoc/41250F.pdf; ComponentLink2Description: Packaging Specification; ComponentLink2URL: http://www.microchip.com/stellent/groups/techpub_sg/documents/packagingspec/en012702.pdf; ComponentLink3Description: Microchip.com Home; ComponentLink3URL: http://www.microchip.com/
footprint TQFP-PT44_N (Thin QFP, 44-Leads, Body 10x10mm, Pitch 0.8mm, IPC Medium Density)
footprint TQFP-PT44_L (Thin QFP, 44-Leads, Body 10x10mm, Pitch 0.8mm, IPC High Density)
footprint TQFP-PT44_M (Thin QFP, 44-Leads, Body 10x10mm, Pitch 0.8mm, IPC Low Density)
pins: 1 RC7/RX/DT/SDI/SDA/SEG8 (io), 2 RD4/SEG17 (io), 3 RD5/SEG18 (io), 4 RD6/SEG19 (io), 5 RD7/SEG20 (io), 6 VSS (power), 7 VDD (power), 8 RB0/SEG0/INT (io), 9 RB1/SEG1 (io), 10 RB2/SEG2 (io), 11 RB3/SEG3 (io), 12 NC, 13 NC, 14 RB4/COM0 (io), 15 RB5/COM1 (io), 16 RB6/ICSPCLK/ICDCK/SEG14 (io), 17 RB7/ICSPDAT/ICDDAT/SEG13 (io), 18 RE3/~{MCLR}/VPP (io), 19 RA0/C1-/AN0/SEG12 (io), 20 RA1/C2-/AN1/SEG7 (io), 21 RA2/AN2/C2+/VREF-/COM2 (io), 22 RA3/AN3/VREF+/C1+/SEG15 (io), 23 RA4/C1OUT/T0CKI/SEG4 (io), 24 RA5/AN4/C2OUT/~{SS}/SEG5 (io), 25 RE0/AN5/SEG21 (io), 26 RE1/AN6/SEG22 (io), 27 RE2/AN7/SEG23 (io), 28 VDD (power), 29 VSS (power), 30 RA7/OSC1/CLKIN/T1OSI (io), 31 RA6/OSC2/CLKOUT/T1OSO (io), 32 RC0/VLCD1 (io), 33 NC, 34 NC, 35 RC1/VLCD2 (io), 36 RC2/VLCD3 (io), 37 RC3/SEG6 (io), 38 RD0/COM3 (io), 39 RD1 (io), 40 RD2/CCP2 (io), 41 RD3/SEG16 (io), 42 RC4/~{T1G}/SDO/SEG11 (io), 43 RC5/T1CKI/CCP1/SEG10 (io), 44 RC6/TX/CK/SCK/SCL/SEG9 (io)

## PIC16F916-E/ML
designator U?
Flash-Based, 8-Bit CMOS Microcontroller with LCD Driver and nanoWatt Technology, 8K (x14-Bit words) Program Memory, 608 Bytes Data Memory, 24 I/O pins, 28-Pin QFN, Standard VDD Range, Extended Temperature; Published: 29-Jan-2009; DatasheetVersion: revF, May-2007; PackageVersion: revBB, Aug-2009; PackageReference: QFN-ML28; Publisher: Altium Limited; PackageDescription: 28-Lead Plastic Quad Flat, No Lead Package (ML) - 6x6 mm Body [QFN] with 0.55 mm Contact Length; Supplier 1: Digi-Key; Supplier Part Number 1: PIC16F916-E/ML-ND; Code_JEDEC: MO-220; Code_IPC: QFN65P600X600-28V; ComponentLink1Description: Datasheet; ComponentLink1URL: http://ww1.microchip.com/downloads/en/DeviceDoc/41250F.pdf; ComponentLink2Description: Packaging Specification; ComponentLink2URL: http://www.microchip.com/stellent/groups/techpub_sg/documents/packagingspec/en012702.pdf; ComponentLink3Description: Microchip.com Home; ComponentLink3URL: http://www.microchip.com/
footprint QFN-ML28_N (QFN, 28-Leads, Body 6x6 mm, Pitch 0.65mm, IPC Medium Density)
footprint QFN-ML28_L (QFN, 28-Leads, Body 6x6 mm, Pitch 0.65mm, IPC High Density)
footprint QFN-ML28_M (QFN, 28-Leads, Body 6x6 mm, Pitch 0.65mm, IPC Low Density)
pins: 1 RA2/AN2/C2+/VREF-/COM2 (io), 2 RA3/AN3/C1+/VREF+/COM3/SEG15 (io), 3 RA4/C1OUT/T0CKI/SEG4 (io), 4 RA5/AN4/C2OUT/~{SS}/SEG5 (io), 5 VSS (power), 6 RA7/OSC1/CLKIN/T1OSI (io), 7 RA6/OSC2/CLKOUT/T1OSO (io), 8 RC0/VLCD1 (io), 9 RC1/VLCD2 (io), 10 RC2/VLCD3 (io), 11 RC3/SEG6 (io), 12 RC4/~{T1G}/SDO/SEG11 (io), 13 RC5/T1CKI/CCP1/SEG10 (io), 14 RC6/TX/CK/SCK/SCL/SEG9 (io), 15 RC7/RX/DT/SDI/SDA/SEG8 (io), 16 VSS (power), 17 VDD (power), 18 RB0/INT/SEG0 (io), 19 RB1/SEG1 (io), 20 RB2/SEG2 (io), 21 RB3/SEG3 (io), 22 RB4/COM0 (io), 23 RB5/COM1 (io), 24 RB6/ICSPCLK/ICDCK/SEG14 (io), 25 RB7/ICSPDAT/ICDDAT/SEG13 (io), 26 RE3/~{MCLR}/VPP (io), 27 RA0/AN0/C1-/SEG12 (io), 28 RA1/AN1/C2-/SEG7 (io), 29 Thermal Pad

## PIC16F916-E/SO
designator U?
Flash-Based, 8-Bit CMOS Microcontroller with LCD Driver and nanoWatt Technology, 8K (x14-Bit words) Program Memory, 608 Bytes Data Memory, 24 I/O pins, 28-Pin SOIC, Standard VDD Range, Extended Temperature; Published: 29-Jan-2009; DatasheetVersion: revF, May-2007; PackageVersion: revBB, Aug-2009; PackageReference: SOIC-SO28; Publisher: Altium Limited; PackageDescription: 28-Lead Plastic Small Outline (SO) - Wide 7.50mm Body [SOIC]; Supplier 1: Digi-Key; Supplier Part Number 1: PIC16F916-E/SO-ND; Code_JEDEC: MS-013; ComponentLink1Description: Datasheet; ComponentLink1URL: http://ww1.microchip.com/downloads/en/DeviceDoc/41250F.pdf; ComponentLink2Description: Packaging Specification; ComponentLink2URL: http://www.microchip.com/stellent/groups/techpub_sg/documents/packagingspec/en012702.pdf; ComponentLink3Description: Microchip.com Home; ComponentLink3URL: http://www.microchip.com/
footprint SOIC-SO28_N (SOIC, 28-Leads, Body 17.9x7.5mm, Pitch 1.27mm, IPC Medium Density)
footprint SOIC-SO28_L (SOIC, 28-Leads, Body 17.9x7.5mm, Pitch 1.27mm, IPC High Density)
footprint SOIC-SO28_M (SOIC, 28-Leads, Body 17.9x7.5mm, Pitch 1.27mm, IPC Low Density)
pins: 1 RE3/~{MCLR}/VPP (io), 2 RA0/AN0/C1-/SEG12 (io), 3 RA1/AN1/C2-/SEG7 (io), 4 RA2/AN2/C2+/VREF-/COM2 (io), 5 RA3/AN3/C1+/VREF+/COM3/SEG15 (io), 6 RA4/C1OUT/T0CKI/SEG4 (io), 7 RA5/AN4/C2OUT/~{SS}/SEG5 (io), 8 VSS (power), 9 RA7/OSC1/CLKIN/T1OSI (io), 10 RA6/OSC2/CLKOUT/T1OSO (io), 11 RC0/VLCD1 (io), 12 RC1/VLCD2 (io), 13 RC2/VLCD3 (io), 14 RC3/SEG6 (io), 15 RC4/~{T1G}/SDO/SEG11 (io), 16 RC5/T1CKI/CCP1/SEG10 (io), 17 RC6/TX/CK/SCK/SCL/SEG9 (io), 18 RC7/RX/DT/SDI/SDA/SEG8 (io), 19 VSS (power), 20 VDD (power), 21 RB0/INT/SEG0 (io), 22 RB1/SEG1 (io), 23 RB2/SEG2 (io), 24 RB3/SEG3 (io), 25 RB4/COM0 (io), 26 RB5/COM1 (io), 27 RB6/ICSPCLK/ICDCK/SEG14 (io), 28 RB7/ICSPDAT/ICDDAT/SEG13 (io)

## PIC16F916-E/SP
designator U?
Flash-Based, 8-Bit CMOS Microcontroller with LCD Driver and nanoWatt Technology, 8K (x14-Bit words) Program Memory, 608 Bytes Data Memory, 24 I/O pins, 28-Pin SPDIP, Standard VDD Range, Extended Temperature; Published: 29-Jan-2009; DatasheetVersion: revF, May-2007; PackageVersion: revBB, Aug-2009; PackageReference: SPDIP300-SP28; Publisher: Altium Limited; PackageDescription: 28-Lead Skinny Plastic Dual In-Line (SP) - 300 mil Body [SPDIP]; Supplier 1: Digi-Key; Supplier Part Number 1: PIC16F916-E/SP-ND; ComponentLink1Description: Datasheet; ComponentLink1URL: http://ww1.microchip.com/downloads/en/DeviceDoc/41250F.pdf; ComponentLink2Description: Packaging Specification; ComponentLink2URL: http://www.microchip.com/stellent/groups/techpub_sg/documents/packagingspec/en012702.pdf; ComponentLink3Description: Microchip.com Home; ComponentLink3URL: http://www.microchip.com/
footprint SPDIP300-SP28 (DIP, 28-Leads, Row Spacing 7.62mm, Pitch 2.54mm, Body 34.9x6.8mm)
pins: 1 RE3/~{MCLR}/VPP (io), 2 RA0/AN0/C1-/SEG12 (io), 3 RA1/AN1/C2-/SEG7 (io), 4 RA2/AN2/C2+/VREF-/COM2 (io), 5 RA3/AN3/C1+/VREF+/COM3/SEG15 (io), 6 RA4/C1OUT/T0CKI/SEG4 (io), 7 RA5/AN4/C2OUT/~{SS}/SEG5 (io), 8 VSS (power), 9 RA7/OSC1/CLKIN/T1OSI (io), 10 RA6/OSC2/CLKOUT/T1OSO (io), 11 RC0/VLCD1 (io), 12 RC1/VLCD2 (io), 13 RC2/VLCD3 (io), 14 RC3/SEG6 (io), 15 RC4/~{T1G}/SDO/SEG11 (io), 16 RC5/T1CKI/CCP1/SEG10 (io), 17 RC6/TX/CK/SCK/SCL/SEG9 (io), 18 RC7/RX/DT/SDI/SDA/SEG8 (io), 19 VSS (power), 20 VDD (power), 21 RB0/INT/SEG0 (io), 22 RB1/SEG1 (io), 23 RB2/SEG2 (io), 24 RB3/SEG3 (io), 25 RB4/COM0 (io), 26 RB5/COM1 (io), 27 RB6/ICSPCLK/ICDCK/SEG14 (io), 28 RB7/ICSPDAT/ICDDAT/SEG13 (io)

## PIC16F916-E/SS
designator U?
Flash-Based, 8-Bit CMOS Microcontroller with LCD Driver and nanoWatt Technology, 8K (x14-Bit words) Program Memory, 608 Bytes Data Memory, 24 I/O pins, 28-Pin SSOP, Standard VDD Range, Extended Temperature; Published: 29-Jan-2009; DatasheetVersion: revF, May-2007; PackageVersion: revBB, Aug-2009; PackageReference: SSOP-SS28; Publisher: Altium Limited; PackageDescription: 28-Lead Plastic Shrink Small Outline (SS) - 5.3mm Body [SSOP]; Supplier 1: Digi-Key; Supplier Part Number 1: PIC16F916-E/SS-ND; Code_JEDEC: MS-150; Code_IPC: SOP65P780-28; ComponentLink1Description: Datasheet; ComponentLink1URL: http://ww1.microchip.com/downloads/en/DeviceDoc/41250F.pdf; ComponentLink2Description: Packaging Specification; ComponentLink2URL: http://www.microchip.com/stellent/groups/techpub_sg/documents/packagingspec/en012702.pdf; ComponentLink3Description: Microchip.com Home; ComponentLink3URL: http://www.microchip.com/
footprint SSOP-SS28_N (SOP, 28-Leads, Body 10.2x5.2mm, Pitch 0.65mm, IPC Medium Density)
footprint SSOP-SS28_L (SOP, 28-Leads, Body 10.2x5.2mm, Pitch 0.65mm, IPC High Density)
footprint SSOP-SS28_M (SOP, 28-Leads, Body 10.2x5.2mm, Pitch 0.65mm, IPC Low Density)
pins: 1 RE3/~{MCLR}/VPP (io), 2 RA0/AN0/C1-/SEG12 (io), 3 RA1/AN1/C2-/SEG7 (io), 4 RA2/AN2/C2+/VREF-/COM2 (io), 5 RA3/AN3/C1+/VREF+/COM3/SEG15 (io), 6 RA4/C1OUT/T0CKI/SEG4 (io), 7 RA5/AN4/C2OUT/~{SS}/SEG5 (io), 8 VSS (power), 9 RA7/OSC1/CLKIN/T1OSI (io), 10 RA6/OSC2/CLKOUT/T1OSO (io), 11 RC0/VLCD1 (io), 12 RC1/VLCD2 (io), 13 RC2/VLCD3 (io), 14 RC3/SEG6 (io), 15 RC4/~{T1G}/SDO/SEG11 (io), 16 RC5/T1CKI/CCP1/SEG10 (io), 17 RC6/TX/CK/SCK/SCL/SEG9 (io), 18 RC7/RX/DT/SDI/SDA/SEG8 (io), 19 VSS (power), 20 VDD (power), 21 RB0/INT/SEG0 (io), 22 RB1/SEG1 (io), 23 RB2/SEG2 (io), 24 RB3/SEG3 (io), 25 RB4/COM0 (io), 26 RB5/COM1 (io), 27 RB6/ICSPCLK/ICDCK/SEG14 (io), 28 RB7/ICSPDAT/ICDDAT/SEG13 (io)

## PIC16F916-I/ML
designator U?
Flash-Based, 8-Bit CMOS Microcontroller with LCD Driver and nanoWatt Technology, 8K (x14-Bit words) Program Memory, 608 Bytes Data Memory, 24 I/O pins, 28-Pin QFN, Standard VDD Range, Industrial Temperature; Published: 29-Jan-2009; DatasheetVersion: revF, May-2007; PackageVersion: revBB, Aug-2009; PackageReference: QFN-ML28; Publisher: Altium Limited; PackageDescription: 28-Lead Plastic Quad Flat, No Lead Package (ML) - 6x6 mm Body [QFN] with 0.55 mm Contact Length; Supplier 1: Digi-Key; Supplier Part Number 1: PIC16F916-I/ML-ND; Supplier 2: Farnell; Supplier Part Number 2: 1526633; Code_JEDEC: MO-220; Code_IPC: QFN65P600X600-28V; ComponentLink1Description: Datasheet; ComponentLink1URL: http://ww1.microchip.com/downloads/en/DeviceDoc/41250F.pdf; ComponentLink2Description: Packaging Specification; ComponentLink2URL: http://www.microchip.com/stellent/groups/techpub_sg/documents/packagingspec/en012702.pdf; ComponentLink3Description: Microchip.com Home; ComponentLink3URL: http://www.microchip.com/
footprint QFN-ML28_N (QFN, 28-Leads, Body 6x6 mm, Pitch 0.65mm, IPC Medium Density)
footprint QFN-ML28_L (QFN, 28-Leads, Body 6x6 mm, Pitch 0.65mm, IPC High Density)
footprint QFN-ML28_M (QFN, 28-Leads, Body 6x6 mm, Pitch 0.65mm, IPC Low Density)
pins: 1 RA2/AN2/C2+/VREF-/COM2 (io), 2 RA3/AN3/C1+/VREF+/COM3/SEG15 (io), 3 RA4/C1OUT/T0CKI/SEG4 (io), 4 RA5/AN4/C2OUT/~{SS}/SEG5 (io), 5 VSS (power), 6 RA7/OSC1/CLKIN/T1OSI (io), 7 RA6/OSC2/CLKOUT/T1OSO (io), 8 RC0/VLCD1 (io), 9 RC1/VLCD2 (io), 10 RC2/VLCD3 (io), 11 RC3/SEG6 (io), 12 RC4/~{T1G}/SDO/SEG11 (io), 13 RC5/T1CKI/CCP1/SEG10 (io), 14 RC6/TX/CK/SCK/SCL/SEG9 (io), 15 RC7/RX/DT/SDI/SDA/SEG8 (io), 16 VSS (power), 17 VDD (power), 18 RB0/INT/SEG0 (io), 19 RB1/SEG1 (io), 20 RB2/SEG2 (io), 21 RB3/SEG3 (io), 22 RB4/COM0 (io), 23 RB5/COM1 (io), 24 RB6/ICSPCLK/ICDCK/SEG14 (io), 25 RB7/ICSPDAT/ICDDAT/SEG13 (io), 26 RE3/~{MCLR}/VPP (io), 27 RA0/AN0/C1-/SEG12 (io), 28 RA1/AN1/C2-/SEG7 (io), 29 Thermal Pad

## PIC16F916-I/SO
designator U?
Flash-Based, 8-Bit CMOS Microcontroller with LCD Driver and nanoWatt Technology, 8K (x14-Bit words) Program Memory, 608 Bytes Data Memory, 24 I/O pins, 28-Pin SOIC, Standard VDD Range, Industrial Temperature; Published: 29-Jan-2009; DatasheetVersion: revF, May-2007; PackageVersion: revBB, Aug-2009; PackageReference: SOIC-SO28; Publisher: Altium Limited; PackageDescription: 28-Lead Plastic Small Outline (SO) - Wide 7.50mm Body [SOIC]; Supplier 1: Digi-Key; Supplier Part Number 1: PIC16F916-I/SO-ND; Supplier 2: Farnell; Supplier Part Number 2: 1292268; Code_JEDEC: MS-013; ComponentLink1Description: Datasheet; ComponentLink1URL: http://ww1.microchip.com/downloads/en/DeviceDoc/41250F.pdf; ComponentLink2Description: Packaging Specification; ComponentLink2URL: http://www.microchip.com/stellent/groups/techpub_sg/documents/packagingspec/en012702.pdf; ComponentLink3Description: Microchip.com Home; ComponentLink3URL: http://www.microchip.com/
footprint SOIC-SO28_N (SOIC, 28-Leads, Body 17.9x7.5mm, Pitch 1.27mm, IPC Medium Density)
footprint SOIC-SO28_L (SOIC, 28-Leads, Body 17.9x7.5mm, Pitch 1.27mm, IPC High Density)
footprint SOIC-SO28_M (SOIC, 28-Leads, Body 17.9x7.5mm, Pitch 1.27mm, IPC Low Density)
pins: 1 RE3/~{MCLR}/VPP (io), 2 RA0/AN0/C1-/SEG12 (io), 3 RA1/AN1/C2-/SEG7 (io), 4 RA2/AN2/C2+/VREF-/COM2 (io), 5 RA3/AN3/C1+/VREF+/COM3/SEG15 (io), 6 RA4/C1OUT/T0CKI/SEG4 (io), 7 RA5/AN4/C2OUT/~{SS}/SEG5 (io), 8 VSS (power), 9 RA7/OSC1/CLKIN/T1OSI (io), 10 RA6/OSC2/CLKOUT/T1OSO (io), 11 RC0/VLCD1 (io), 12 RC1/VLCD2 (io), 13 RC2/VLCD3 (io), 14 RC3/SEG6 (io), 15 RC4/~{T1G}/SDO/SEG11 (io), 16 RC5/T1CKI/CCP1/SEG10 (io), 17 RC6/TX/CK/SCK/SCL/SEG9 (io), 18 RC7/RX/DT/SDI/SDA/SEG8 (io), 19 VSS (power), 20 VDD (power), 21 RB0/INT/SEG0 (io), 22 RB1/SEG1 (io), 23 RB2/SEG2 (io), 24 RB3/SEG3 (io), 25 RB4/COM0 (io), 26 RB5/COM1 (io), 27 RB6/ICSPCLK/ICDCK/SEG14 (io), 28 RB7/ICSPDAT/ICDDAT/SEG13 (io)

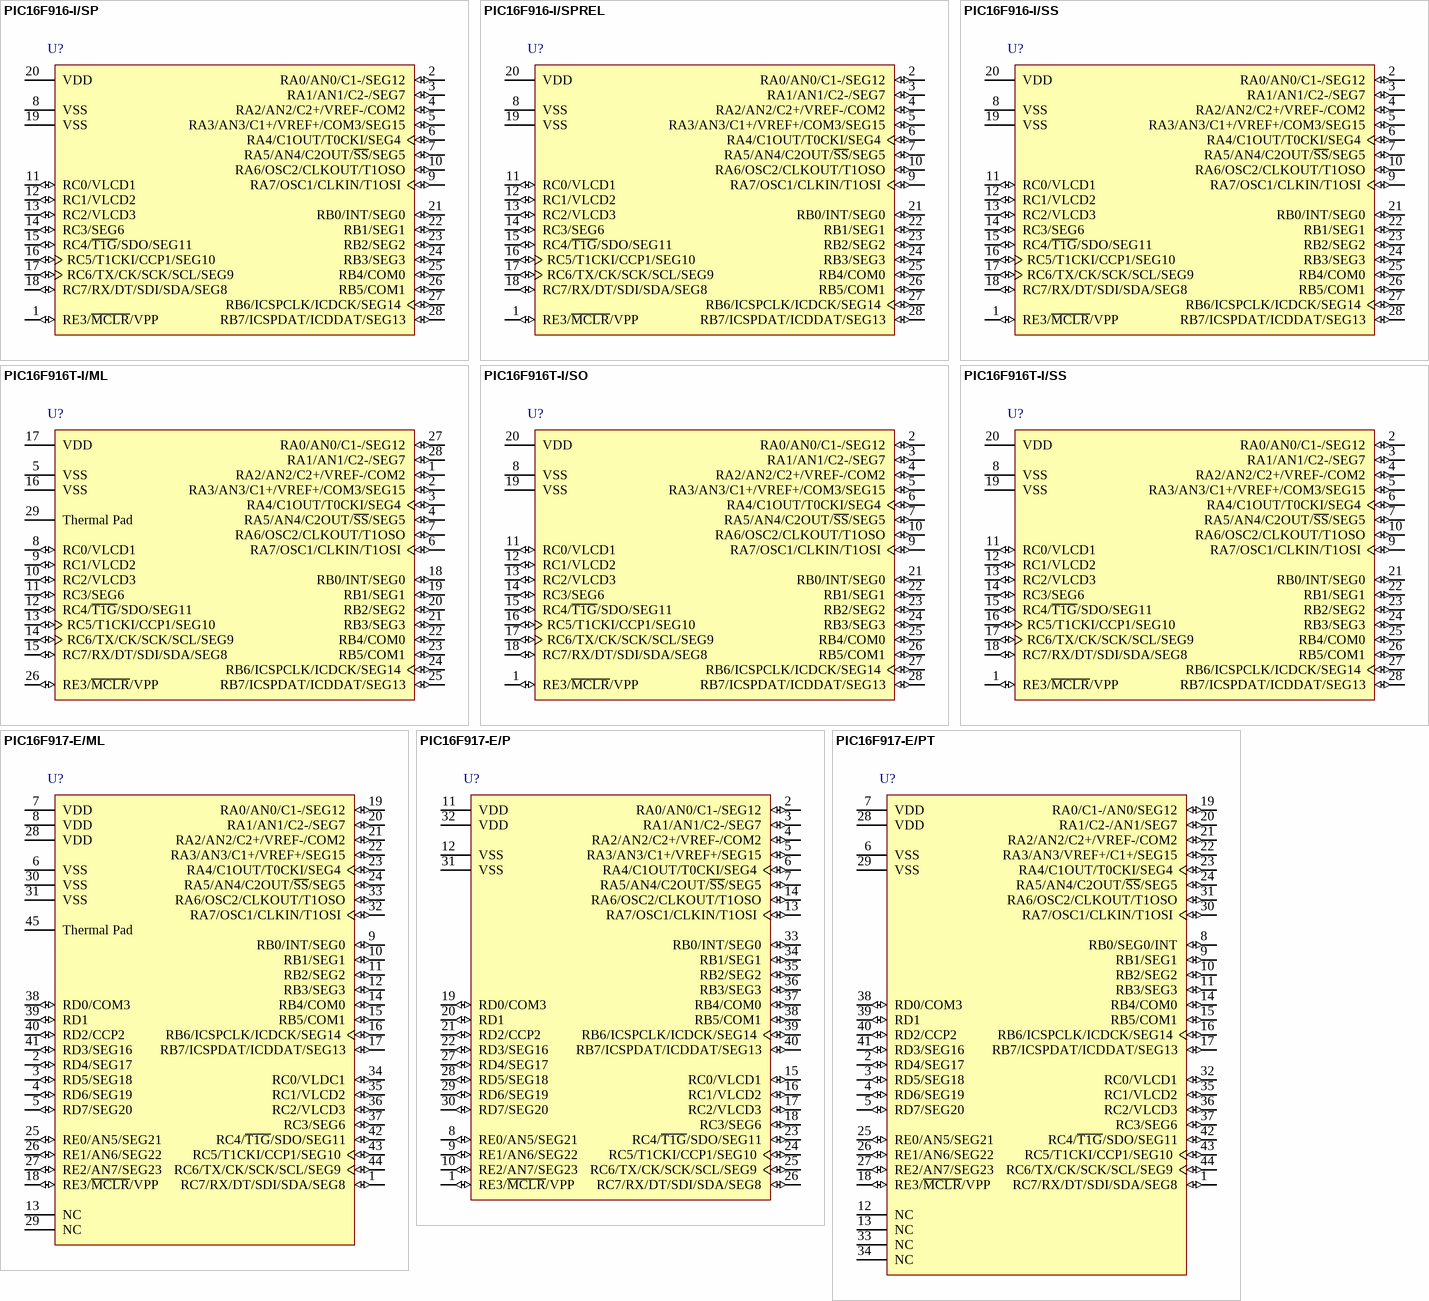
[diagram p74: symbols PIC16F916-I/SP to PIC16F917-E/PT]

## PIC16F916-I/SP
designator U?
Flash-Based, 8-Bit CMOS Microcontroller with LCD Driver and nanoWatt Technology, 8K (x14-Bit words) Program Memory, 608 Bytes Data Memory, 24 I/O pins, 28-Pin SPDIP, Standard VDD Range, Industrial Temperature; Published: 29-Jan-2009; DatasheetVersion: revF, May-2007; PackageVersion: revBB, Aug-2009; PackageReference: SPDIP300-SP28; Publisher: Altium Limited; PackageDescription: 28-Lead Skinny Plastic Dual In-Line (SP) - 300 mil Body [SPDIP]; Supplier 1: Digi-Key; Supplier Part Number 1: PIC16F916-I/SP-ND; Supplier 2: Farnell; Supplier Part Number 2: 1292269; ComponentLink1Description: Datasheet; ComponentLink1URL: http://ww1.microchip.com/downloads/en/DeviceDoc/41250F.pdf; ComponentLink2Description: Packaging Specification; ComponentLink2URL: http://www.microchip.com/stellent/groups/techpub_sg/documents/packagingspec/en012702.pdf; ComponentLink3Description: Microchip.com Home; ComponentLink3URL: http://www.microchip.com/
footprint SPDIP300-SP28 (DIP, 28-Leads, Row Spacing 7.62mm, Pitch 2.54mm, Body 34.9x6.8mm)
pins: 1 RE3/~{MCLR}/VPP (io), 2 RA0/AN0/C1-/SEG12 (io), 3 RA1/AN1/C2-/SEG7 (io), 4 RA2/AN2/C2+/VREF-/COM2 (io), 5 RA3/AN3/C1+/VREF+/COM3/SEG15 (io), 6 RA4/C1OUT/T0CKI/SEG4 (io), 7 RA5/AN4/C2OUT/~{SS}/SEG5 (io), 8 VSS (power), 9 RA7/OSC1/CLKIN/T1OSI (io), 10 RA6/OSC2/CLKOUT/T1OSO (io), 11 RC0/VLCD1 (io), 12 RC1/VLCD2 (io), 13 RC2/VLCD3 (io), 14 RC3/SEG6 (io), 15 RC4/~{T1G}/SDO/SEG11 (io), 16 RC5/T1CKI/CCP1/SEG10 (io), 17 RC6/TX/CK/SCK/SCL/SEG9 (io), 18 RC7/RX/DT/SDI/SDA/SEG8 (io), 19 VSS (power), 20 VDD (power), 21 RB0/INT/SEG0 (io), 22 RB1/SEG1 (io), 23 RB2/SEG2 (io), 24 RB3/SEG3 (io), 25 RB4/COM0 (io), 26 RB5/COM1 (io), 27 RB6/ICSPCLK/ICDCK/SEG14 (io), 28 RB7/ICSPDAT/ICDDAT/SEG13 (io)

## PIC16F916-I/SPREL
designator U?
Flash-Based, 8-Bit CMOS Microcontroller with LCD Driver and nanoWatt Technology, 8K (x14-Bit words) Program Memory, 608 Bytes Data Memory, 24 I/O pins, 28-Pin SPDIP, Standard VDD Range, Industrial Temperature; ComponentAvailability: Unknown. Contact manufacturer to determine status.; Published: 29-Jan-2009; DatasheetVersion: revF, May-2007; PackageVersion: revBB, Aug-2009; PackageReference: SPDIP300-SP28; Publisher: Altium Limited; PackageDescription: 28-Lead Skinny Plastic Dual In-Line (SP) - 300 mil Body [SPDIP]; ComponentLink1Description: Datasheet; ComponentLink1URL: http://ww1.microchip.com/downloads/en/DeviceDoc/41250F.pdf; ComponentLink2Description: Packaging Specification; ComponentLink2URL: http://www.microchip.com/stellent/groups/techpub_sg/documents/packagingspec/en012702.pdf; ComponentLink3Description: Microchip.com Home; ComponentLink3URL: http://www.microchip.com/
footprint SPDIP300-SP28 (DIP, 28-Leads, Row Spacing 7.62mm, Pitch 2.54mm, Body 34.9x6.8mm)
pins: 1 RE3/~{MCLR}/VPP (io), 2 RA0/AN0/C1-/SEG12 (io), 3 RA1/AN1/C2-/SEG7 (io), 4 RA2/AN2/C2+/VREF-/COM2 (io), 5 RA3/AN3/C1+/VREF+/COM3/SEG15 (io), 6 RA4/C1OUT/T0CKI/SEG4 (io), 7 RA5/AN4/C2OUT/~{SS}/SEG5 (io), 8 VSS (power), 9 RA7/OSC1/CLKIN/T1OSI (io), 10 RA6/OSC2/CLKOUT/T1OSO (io), 11 RC0/VLCD1 (io), 12 RC1/VLCD2 (io), 13 RC2/VLCD3 (io), 14 RC3/SEG6 (io), 15 RC4/~{T1G}/SDO/SEG11 (io), 16 RC5/T1CKI/CCP1/SEG10 (io), 17 RC6/TX/CK/SCK/SCL/SEG9 (io), 18 RC7/RX/DT/SDI/SDA/SEG8 (io), 19 VSS (power), 20 VDD (power), 21 RB0/INT/SEG0 (io), 22 RB1/SEG1 (io), 23 RB2/SEG2 (io), 24 RB3/SEG3 (io), 25 RB4/COM0 (io), 26 RB5/COM1 (io), 27 RB6/ICSPCLK/ICDCK/SEG14 (io), 28 RB7/ICSPDAT/ICDDAT/SEG13 (io)

## PIC16F916-I/SS
designator U?
Flash-Based, 8-Bit CMOS Microcontroller with LCD Driver and nanoWatt Technology, 8K (x14-Bit words) Program Memory, 608 Bytes Data Memory, 24 I/O pins, 28-Pin SSOP, Standard VDD Range, Industrial Temperature; Published: 29-Jan-2009; DatasheetVersion: revF, May-2007; PackageVersion: revBB, Aug-2009; PackageReference: SSOP-SS28; Publisher: Altium Limited; PackageDescription: 28-Lead Plastic Shrink Small Outline (SS) - 5.3mm Body [SSOP]; Supplier 1: Digi-Key; Supplier Part Number 1: PIC16F916-I/SS-ND; Supplier 2: Farnell; Supplier Part Number 2: 1332218; Code_JEDEC: MS-150; Code_IPC: SOP65P780-28; ComponentLink1Description: Datasheet; ComponentLink1URL: http://ww1.microchip.com/downloads/en/DeviceDoc/41250F.pdf; ComponentLink2Description: Packaging Specification; ComponentLink2URL: http://www.microchip.com/stellent/groups/techpub_sg/documents/packagingspec/en012702.pdf; ComponentLink3Description: Microchip.com Home; ComponentLink3URL: http://www.microchip.com/
footprint SSOP-SS28_N (SOP, 28-Leads, Body 10.2x5.2mm, Pitch 0.65mm, IPC Medium Density)
footprint SSOP-SS28_L (SOP, 28-Leads, Body 10.2x5.2mm, Pitch 0.65mm, IPC High Density)
footprint SSOP-SS28_M (SOP, 28-Leads, Body 10.2x5.2mm, Pitch 0.65mm, IPC Low Density)
pins: 1 RE3/~{MCLR}/VPP (io), 2 RA0/AN0/C1-/SEG12 (io), 3 RA1/AN1/C2-/SEG7 (io), 4 RA2/AN2/C2+/VREF-/COM2 (io), 5 RA3/AN3/C1+/VREF+/COM3/SEG15 (io), 6 RA4/C1OUT/T0CKI/SEG4 (io), 7 RA5/AN4/C2OUT/~{SS}/SEG5 (io), 8 VSS (power), 9 RA7/OSC1/CLKIN/T1OSI (io), 10 RA6/OSC2/CLKOUT/T1OSO (io), 11 RC0/VLCD1 (io), 12 RC1/VLCD2 (io), 13 RC2/VLCD3 (io), 14 RC3/SEG6 (io), 15 RC4/~{T1G}/SDO/SEG11 (io), 16 RC5/T1CKI/CCP1/SEG10 (io), 17 RC6/TX/CK/SCK/SCL/SEG9 (io), 18 RC7/RX/DT/SDI/SDA/SEG8 (io), 19 VSS (power), 20 VDD (power), 21 RB0/INT/SEG0 (io), 22 RB1/SEG1 (io), 23 RB2/SEG2 (io), 24 RB3/SEG3 (io), 25 RB4/COM0 (io), 26 RB5/COM1 (io), 27 RB6/ICSPCLK/ICDCK/SEG14 (io), 28 RB7/ICSPDAT/ICDDAT/SEG13 (io)

## PIC16F916T-I/ML
designator U?
Flash-Based, 8-Bit CMOS Microcontroller with LCD Driver and nanoWatt Technology, 8K (x14-Bit words) Program Memory, 608 Bytes Data Memory, 24 I/O pins, 28-Pin QFN, Standard VDD Range, Industrial Temperature, Tape and Reel; Published: 29-Jan-2009; DatasheetVersion: revF, May-2007; PackageVersion: revBB, Aug-2009; PackageReference: QFN-ML28; Publisher: Altium Limited; PackageDescription: 28-Lead Plastic Quad Flat, No Lead Package (ML) - 6x6 mm Body [QFN] with 0.55 mm Contact Length; Supplier 1: Digi-Key; Supplier Part Number 1: PIC16F916T-I/ML-ND; Code_JEDEC: MO-220; Code_IPC: QFN65P600X600-28V; ComponentLink1Description: Datasheet; ComponentLink1URL: http://ww1.microchip.com/downloads/en/DeviceDoc/41250F.pdf; ComponentLink2Description: Packaging Specification; ComponentLink2URL: http://www.microchip.com/stellent/groups/techpub_sg/documents/packagingspec/en012702.pdf; ComponentLink3Description: Microchip.com Home; ComponentLink3URL: http://www.microchip.com/
footprint QFN-ML28_N (QFN, 28-Leads, Body 6x6 mm, Pitch 0.65mm, IPC Medium Density)
footprint QFN-ML28_L (QFN, 28-Leads, Body 6x6 mm, Pitch 0.65mm, IPC High Density)
footprint QFN-ML28_M (QFN, 28-Leads, Body 6x6 mm, Pitch 0.65mm, IPC Low Density)
pins: 1 RA2/AN2/C2+/VREF-/COM2 (io), 2 RA3/AN3/C1+/VREF+/COM3/SEG15 (io), 3 RA4/C1OUT/T0CKI/SEG4 (io), 4 RA5/AN4/C2OUT/~{SS}/SEG5 (io), 5 VSS (power), 6 RA7/OSC1/CLKIN/T1OSI (io), 7 RA6/OSC2/CLKOUT/T1OSO (io), 8 RC0/VLCD1 (io), 9 RC1/VLCD2 (io), 10 RC2/VLCD3 (io), 11 RC3/SEG6 (io), 12 RC4/~{T1G}/SDO/SEG11 (io), 13 RC5/T1CKI/CCP1/SEG10 (io), 14 RC6/TX/CK/SCK/SCL/SEG9 (io), 15 RC7/RX/DT/SDI/SDA/SEG8 (io), 16 VSS (power), 17 VDD (power), 18 RB0/INT/SEG0 (io), 19 RB1/SEG1 (io), 20 RB2/SEG2 (io), 21 RB3/SEG3 (io), 22 RB4/COM0 (io), 23 RB5/COM1 (io), 24 RB6/ICSPCLK/ICDCK/SEG14 (io), 25 RB7/ICSPDAT/ICDDAT/SEG13 (io), 26 RE3/~{MCLR}/VPP (io), 27 RA0/AN0/C1-/SEG12 (io), 28 RA1/AN1/C2-/SEG7 (io), 29 Thermal Pad

## PIC16F916T-I/SO
designator U?
Flash-Based, 8-Bit CMOS Microcontroller with LCD Driver and nanoWatt Technology, 8K (x14-Bit words) Program Memory, 608 Bytes Data Memory, 24 I/O pins, 28-Pin SOIC, Standard VDD Range, Industrial Temperature, Tape and Reel; Published: 29-Jan-2009; DatasheetVersion: revF, May-2007; PackageVersion: revBB, Aug-2009; PackageReference: SOIC-SO28; Publisher: Altium Limited; PackageDescription: 28-Lead Plastic Small Outline (SO) - Wide 7.50mm Body [SOIC]; Supplier 1: Digi-Key; Supplier Part Number 1: PIC16F916T-I/SO-ND; Code_JEDEC: MS-013; ComponentLink1Description: Datasheet; ComponentLink1URL: http://ww1.microchip.com/downloads/en/DeviceDoc/41250F.pdf; ComponentLink2Description: Packaging Specification; ComponentLink2URL: http://www.microchip.com/stellent/groups/techpub_sg/documents/packagingspec/en012702.pdf; ComponentLink3Description: Microchip.com Home; ComponentLink3URL: http://www.microchip.com/
footprint SOIC-SO28_N (SOIC, 28-Leads, Body 17.9x7.5mm, Pitch 1.27mm, IPC Medium Density)
footprint SOIC-SO28_L (SOIC, 28-Leads, Body 17.9x7.5mm, Pitch 1.27mm, IPC High Density)
footprint SOIC-SO28_M (SOIC, 28-Leads, Body 17.9x7.5mm, Pitch 1.27mm, IPC Low Density)
pins: 1 RE3/~{MCLR}/VPP (io), 2 RA0/AN0/C1-/SEG12 (io), 3 RA1/AN1/C2-/SEG7 (io), 4 RA2/AN2/C2+/VREF-/COM2 (io), 5 RA3/AN3/C1+/VREF+/COM3/SEG15 (io), 6 RA4/C1OUT/T0CKI/SEG4 (io), 7 RA5/AN4/C2OUT/~{SS}/SEG5 (io), 8 VSS (power), 9 RA7/OSC1/CLKIN/T1OSI (io), 10 RA6/OSC2/CLKOUT/T1OSO (io), 11 RC0/VLCD1 (io), 12 RC1/VLCD2 (io), 13 RC2/VLCD3 (io), 14 RC3/SEG6 (io), 15 RC4/~{T1G}/SDO/SEG11 (io), 16 RC5/T1CKI/CCP1/SEG10 (io), 17 RC6/TX/CK/SCK/SCL/SEG9 (io), 18 RC7/RX/DT/SDI/SDA/SEG8 (io), 19 VSS (power), 20 VDD (power), 21 RB0/INT/SEG0 (io), 22 RB1/SEG1 (io), 23 RB2/SEG2 (io), 24 RB3/SEG3 (io), 25 RB4/COM0 (io), 26 RB5/COM1 (io), 27 RB6/ICSPCLK/ICDCK/SEG14 (io), 28 RB7/ICSPDAT/ICDDAT/SEG13 (io)

## PIC16F916T-I/SS
designator U?
Flash-Based, 8-Bit CMOS Microcontroller with LCD Driver and nanoWatt Technology, 8K (x14-Bit words) Program Memory, 608 Bytes Data Memory, 24 I/O pins, 28-Pin SSOP, Standard VDD Range, Industrial Temperature, Tape and Reel; Published: 29-Jan-2009; DatasheetVersion: revF, May-2007; PackageVersion: revBB, Aug-2009; PackageReference: SSOP-SS28; Publisher: Altium Limited; PackageDescription: 28-Lead Plastic Shrink Small Outline (SS) - 5.3mm Body [SSOP]; Supplier 1: Digi-Key; Supplier Part Number 1: PIC16F916T-I/SS-ND; Code_JEDEC: MS-150; Code_IPC: SOP65P780-28; ComponentLink1Description: Datasheet; ComponentLink1URL: http://ww1.microchip.com/downloads/en/DeviceDoc/41250F.pdf; ComponentLink2Description: Packaging Specification; ComponentLink2URL: http://www.microchip.com/stellent/groups/techpub_sg/documents/packagingspec/en012702.pdf; ComponentLink3Description: Microchip.com Home; ComponentLink3URL: http://www.microchip.com/
footprint SSOP-SS28_N (SOP, 28-Leads, Body 10.2x5.2mm, Pitch 0.65mm, IPC Medium Density)
footprint SSOP-SS28_L (SOP, 28-Leads, Body 10.2x5.2mm, Pitch 0.65mm, IPC High Density)
footprint SSOP-SS28_M (SOP, 28-Leads, Body 10.2x5.2mm, Pitch 0.65mm, IPC Low Density)
pins: 1 RE3/~{MCLR}/VPP (io), 2 RA0/AN0/C1-/SEG12 (io), 3 RA1/AN1/C2-/SEG7 (io), 4 RA2/AN2/C2+/VREF-/COM2 (io), 5 RA3/AN3/C1+/VREF+/COM3/SEG15 (io), 6 RA4/C1OUT/T0CKI/SEG4 (io), 7 RA5/AN4/C2OUT/~{SS}/SEG5 (io), 8 VSS (power), 9 RA7/OSC1/CLKIN/T1OSI (io), 10 RA6/OSC2/CLKOUT/T1OSO (io), 11 RC0/VLCD1 (io), 12 RC1/VLCD2 (io), 13 RC2/VLCD3 (io), 14 RC3/SEG6 (io), 15 RC4/~{T1G}/SDO/SEG11 (io), 16 RC5/T1CKI/CCP1/SEG10 (io), 17 RC6/TX/CK/SCK/SCL/SEG9 (io), 18 RC7/RX/DT/SDI/SDA/SEG8 (io), 19 VSS (power), 20 VDD (power), 21 RB0/INT/SEG0 (io), 22 RB1/SEG1 (io), 23 RB2/SEG2 (io), 24 RB3/SEG3 (io), 25 RB4/COM0 (io), 26 RB5/COM1 (io), 27 RB6/ICSPCLK/ICDCK/SEG14 (io), 28 RB7/ICSPDAT/ICDDAT/SEG13 (io)